# Altium footprint library SBR10E45P57.PcbLib: 1 footprints
Each footprint in its own frame and in the unit in brackets; x right, y up, seen from the top. Pads: shape width x height; smd on the part's side, far side on the other; paste and mask are expansions set on the pad; w line width, h text height; cw(c..) or ccw(c..) is an arc to the next point about the centre after c.
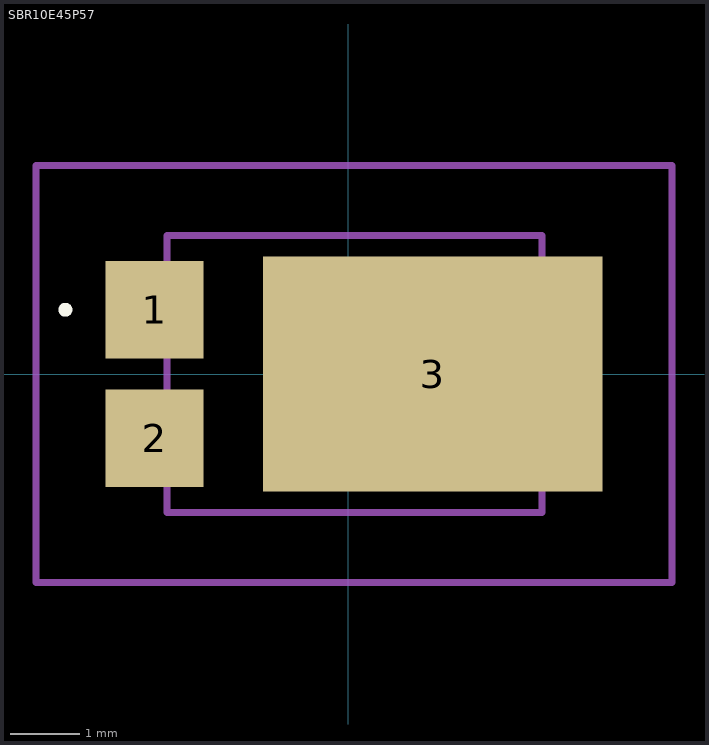
[diagram p0: the footprint, top view; thin cyan lines are the x and y axes]

## SBR10E45P57 [mm]
pads (3):
  rect 1.4x1.39 smd: 1(-2.773,0.92) 2(-2.773,-0.92)
  rect 4.86x3.36 smd: 3(1.208,0)
Top Overlay:
  lines w0.1: -4.1,0.92 cw(c-4.05,0.92) -4,0.92 ; -4.1,0.92 -4.1,0.92 ; -4.1,0.92 ccw(c-4.05,0.92) -4,0.92 ; -4,0.92 -4,0.92
Mechanical 15:
  lines w0.1: -2.597,-1.983 2.773,-1.983 2.773,1.983 -2.597,1.983 -2.597,-1.983
Mechanical 20:
  lines w0.1: -4.473,-2.983 4.638,-2.983 4.638,2.983 -4.473,2.983 -4.473,-2.983